# Altium schematic symbol library Security.SchLib: 3 symbols
Pins are listed as number, name and electrical type; pins without a type are passive.

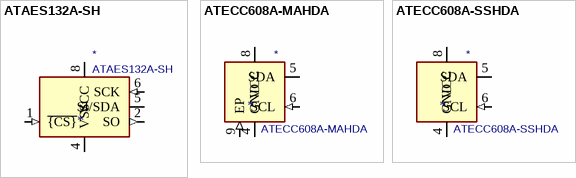
[diagram p0: symbols ATAES132A-SH to ATECC608A-SSHDA]

## ATAES132A-SH
designator *  value ATAES132A-SH
ki_keywords: cryptographic security AES SPI; ki_description: 32K AES serial EEPROM, SOIC-8; ki_fp_filters: SOIC*3.9x4.9mm*P1.27mm*; Footprint: Package_SO:SOIC-8_3.9x4.9mm_P1.27mm; Supplier: http://ww1.microchip.com/downloads/en/DeviceDoc/ATAES132A-Data-Sheet-40002023A.pdf
footprint SOIC-8_3.9x4.9mm_P1.27mm
pins: 1 ~{{CS}} (in), 2 SO (out), 3 NC (in) hidden, 4 VSS (power), 5 SI/SDA (io), 6 SCK (in), 7 NC (in) hidden, 8 VCC (power)

## ATECC608A-MAHDA
designator *  value ATECC608A-MAHDA
ki_keywords: Cryptographic coprocessor; ki_description: Cryptographic Co-Processor with Secure Hardware-based 16 Key Storage, ECDSA and ECDH support, I2C, UDFN-8; ki_fp_filters: DFN*8*1EP*3x2mm*P0.5mm*; Footprint: Package_DFN_QFN:DFN-8-1EP_3x2mm_P0.5mm_EP1.3x1.5mm; Supplier: http://ww1.microchip.com/downloads/en/DeviceDoc/ATECC608A-CryptoAuthentication-Device-Summary-Data-Sheet-DS40001977B.pdf
footprint DFN-8-1EP_3x2mm_P0.5mm_EP1.3x1.5mm
pins: 4 GND (power), 5 SDA (io), 6 SCL (in), 8 VCC (power), 9 EP (in)

## ATECC608A-SSHDA
designator *  value ATECC608A-SSHDA
ki_keywords: Cryptographic coprocessor; ki_description: Cryptographic Co-Processor with Secure Hardware-based 16 Key Storage, ECDSA and ECDH support, I2C, SOIC-8; ki_fp_filters: SOIC*8*3.9x4.9mm*P1.27mm*; Footprint: Package_SO:SOIC-8_3.9x4.9mm_P1.27mm; Supplier: http://ww1.microchip.com/downloads/en/DeviceDoc/ATECC608A-CryptoAuthentication-Device-Summary-Data-Sheet-DS40001977B.pdf
footprint SOIC-8_3.9x4.9mm_P1.27mm
pins: 4 GND (power), 5 SDA (io), 6 SCL (in), 8 VCC (power)